# Altium schematic symbol library RFSW1012TR7.SchLib: 1 symbol
Pins are listed as number, name and electrical type; pins without a type are passive.

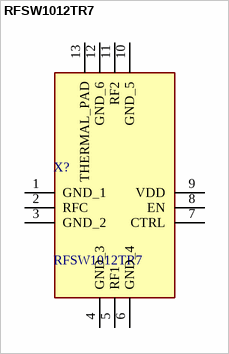
[diagram p0: symbol RFSW1012TR7]

## RFSW1012TR7
designator X?
RF Switch ICs .05-6GHz SPDT IL .45dB Max.; Manufacturer_Name: RFMD; Geometry.Height: 0.6mm; Manufacturer_Part_Number: RFSW1012TR7; Mouser Part Number: 772-RFSW1012; Mouser Price/Stock: https://www.mouser.com/Search/Refine.aspx?Keyword=772-RFSW1012; Arrow Part Number: *; Arrow Price/Stock: *; Datasheet Link: http://www.qorvo.com/products/d/da001146
footprint QFN50P200X200X60-13N-D
pins: 1 GND_1, 2 RFC, 3 GND_2, 4 GND_3, 5 RF1, 6 GND_4, 7 CTRL, 8 EN, 9 VDD, 10 GND_5, 11 RF2, 12 GND_6, 13 THERMAL_PAD